# Altium footprint library BSPO.PcbLib: 178 footprints (part 6 of 12)
Each footprint in its own frame and in the unit in brackets; x right, y up, seen from the top. Pads: shape width x height; smd on the part's side, far side on the other; paste and mask are expansions set on the pad; w line width, h text height; cw(c..) or ccw(c..) is an arc to the next point about the centre after c.
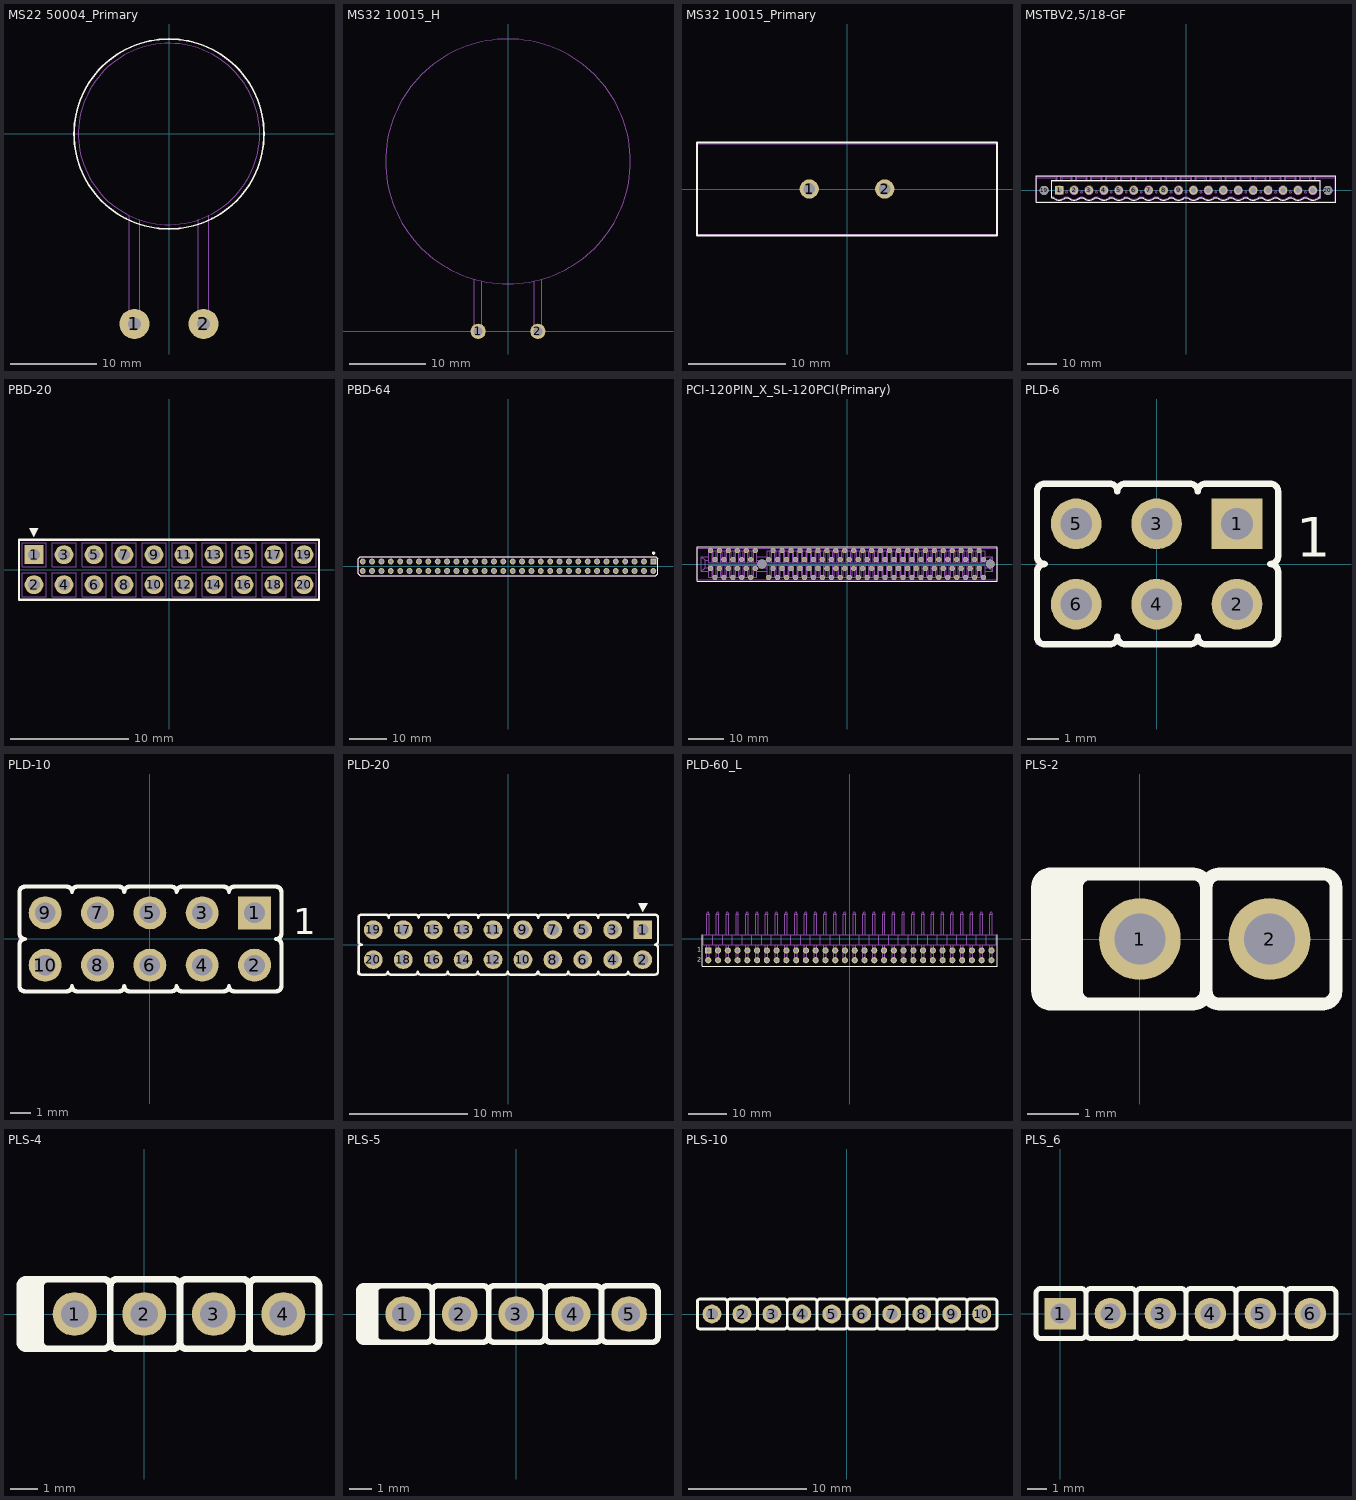
[diagram p5: the footprints below, top view; thin cyan lines are the x and y axes]

## MS22 50004_Primary [mm]
pads (2):
  round 3.5 hole 1.5: 1(-4,-22) 2(4,-22)
Top Overlay:
  circle w0.2: c0,0 r11
Mechanical 1:
  circle w0.02: c0,0 r10.5
  lines w0.02: -4.6,-9.438 -4.6,-22 ccw(c-4,-22) -3.4,-22 -3.4,-9.934 ; 3.4,-9.934 3.4,-22 ccw(c4,-22) 4.6,-22 4.6,-9.438

## MS32 10015_H [mm]
pads (2):
  round 2 hole 1.2: 1(-3.9,0) 2(3.9,0)
Mechanical 1:
  circle w0.025: c0,22.2 r16
  lines w0.025: -4.4,6.81 -4.4,0 ccw(c-3.9,0) -3.4,0 -3.4,6.56 ; 3.4,6.56 3.4,0 ccw(c3.9,0) 4.4,0 4.4,6.81

## MS32 10015_Primary [mm]
pads (2):
  round 2 hole 1.2: 1(-3.9,0) 2(3.9,0)
Top Overlay:
  lines w0.2: -15.5,-4.8 15.5,-4.8 15.5,4.8 -15.5,4.8 -15.5,-4.8
Mechanical 1:
  lines w0.025: -15.5,-4.7 15.5,-4.7 15.5,4.7 -15.5,4.7 -15.5,-4.7

## MSTBV2,5/18-GF [mm]
pads (20):
  rect 2.8x2.8 hole 1.8: 1(-42.5,0)
  round 2.8 hole 1.8: 2(-37.5,0) 3(-32.5,0) 4(-27.5,0) 5(-22.5,0) 6(-17.5,0) 7(-12.5,0) 8(-7.5,0) 9(-2.5,0) 10(2.5,0) 11(7.5,0) 12(12.5,0) 13(17.5,0) 14(22.5,0) 15(27.5,0) 16(32.5,0) 17(37.5,0) 18(42.5,0)
  round 3 hole 3 unplated: 19(-47.5,0) 20(47.5,0)
Top Overlay:
  lines w0.25: -44.502,-2.569 ccw(c-42.5,-0.07) -40.503,-2.572 ; -44.5,-2.57 -45,-2.57 -45,3.43 45,3.43 45,-2.57 44.5,-2.57 ; -40.5,-2.571 -39.5,-2.571 ; -39.502,-2.569 ccw(c-37.5,-0.071) -35.503,-2.573 ; -35.5,-2.571 -34.5,-2.571 ; -34.502,-2.569 ccw(c-32.5,-0.071) -30.503,-2.573 ; -30.5,-2.57 -29.5,-2.57 ; -29.502,-2.569 ccw(c-27.5,-0.07) -25.503,-2.572 ; -25.5,-2.57 -24.5,-2.57 ; -24.502,-2.569 ccw(c-22.5,-0.07) -20.503,-2.572 ; -20.5,-2.57 -19.5,-2.57 ; -19.502,-2.569 ccw(c-17.5,-0.07) -15.503,-2.572 ; -15.5,-2.57 -14.5,-2.57 ; -14.502,-2.569 ccw(c-12.5,-0.07) -10.503,-2.572 ; -10.5,-2.57 -9.5,-2.57 ; -9.502,-2.569 ccw(c-7.5,-0.07) -5.503,-2.572 ; -5.5,-2.57 -4.5,-2.57 ; -4.502,-2.569 ccw(c-2.5,-0.07) -0.503,-2.572 ; -0.5,-2.57 0.5,-2.57 ; 0.498,-2.569 ccw(c2.5,-0.07) 4.497,-2.572 ; 4.5,-2.57 5.5,-2.57 ; 5.498,-2.569 ccw(c7.5,-0.07) 9.497,-2.572 ; 9.5,-2.57 10.5,-2.57 ; 10.498,-2.569 ccw(c12.5,-0.07) 14.497,-2.572 ; 14.5,-2.57 15.5,-2.57 ; 15.498,-2.569 ccw(c17.5,-0.07) 19.497,-2.572 ; 19.5,-2.57 20.5,-2.57 ; 20.498,-2.569 ccw(c22.5,-0.07) 24.497,-2.572 ; 24.5,-2.57 25.5,-2.57 ; 25.498,-2.569 ccw(c27.5,-0.07) 29.497,-2.572 ; 29.5,-2.57 30.5,-2.57 ; 30.498,-2.569 ccw(c32.5,-0.07) 34.497,-2.572 ; 34.5,-2.57 35.5,-2.57 ; 35.498,-2.569 ccw(c37.5,-0.07) 39.497,-2.572 ; 39.5,-2.57 40.5,-2.57 ; 40.498,-2.569 ccw(c42.5,-0.07) 44.497,-2.572 ; -50.25,-4.07 50.25,-4.07 50.25,4.93 -50.25,4.93 -50.25,-4.07
Mechanical 1:
  drawing of 586 lines, arcs and shapes, not listed

## PBD-20 [mm]
pads (20):
  rect 1.6x1.6 hole 1: 1(-11.43,1.27)
  round 1.6 hole 1: 2(-11.43,-1.27) 3(-8.89,1.27) 4(-8.89,-1.27) 5(-6.35,1.27) 6(-6.35,-1.27) 7(-3.81,1.27) 8(-3.81,-1.27) 9(-1.27,1.27) 10(-1.27,-1.27) 11(1.27,1.27) 12(1.27,-1.27) 13(3.81,1.27) 14(3.81,-1.27) 15(6.35,1.27) 16(6.35,-1.27) 17(8.89,1.27) 18(8.89,-1.27) 19(11.43,1.27) 20(11.43,-1.27)
Top Overlay:
  region: -11.85,3.5 -11.45,2.8 -11.05,3.5
  lines w0.2: -12.7,-2.54 12.7,-2.54 12.7,2.54 -12.7,2.54 -12.7,-2.54
Mechanical 1:
  lines w0.01: -10.16,-2.54 -12.7,-2.54 ; -10.16,2.54 -12.7,2.54 ; -12.7,-2.54 12.7,-2.54 ; -12.7,-2.54 -12.7,2.54 ; -12.7,2.54 12.7,2.54 ; 12.7,-2.54 12.7,2.54 ; 12.7,-2.54 12.7,0 ; 12.7,-2.54 12.7,2.54 ; 12.7,-2.54 12.7,0 ; 12.7,0 12.7,2.54 ; 12.7,0 12.7,2.54 ; -12.446,-2.286 -12.446,-0.254 -10.414,-0.254 -10.414,-2.286 -12.446,-2.286 ; -12.446,0.254 -12.446,2.286 -10.414,2.286 -10.414,0.254 -12.446,0.254 ; -9.906,-2.286 -9.906,-0.254 -7.874,-0.254 -7.874,-2.286 -9.906,-2.286 ; -9.906,0.254 -9.906,2.286 -7.874,2.286 -7.874,0.254 -9.906,0.254 ; -7.366,-2.286 -7.366,-0.254 -5.334,-0.254 -5.334,-2.286 -7.366,-2.286 ; -7.366,0.254 -7.366,2.286 -5.334,2.286 -5.334,0.254 -7.366,0.254 ; -4.826,-2.286 -4.826,-0.254 -2.794,-0.254 -2.794,-2.286 -4.826,-2.286 ; -4.826,0.254 -4.826,2.286 -2.794,2.286 -2.794,0.254 -4.826,0.254 ; -2.286,-2.286 -2.286,-0.254 -0.254,-0.254 -0.254,-2.286 -2.286,-2.286 ; -2.286,0.254 -2.286,2.286 -0.254,2.286 -0.254,0.254 -2.286,0.254 ; 0.254,-2.286 0.254,-0.254 2.286,-0.254 2.286,-2.286 0.254,-2.286 ; 0.254,0.254 0.254,2.286 2.286,2.286 2.286,0.254 0.254,0.254 ; 2.794,-2.286 2.794,-0.254 4.826,-0.254 4.826,-2.286 2.794,-2.286 ; 2.794,0.254 2.794,2.286 4.826,2.286 4.826,0.254 2.794,0.254 ; 5.334,-2.286 5.334,-0.254 7.366,-0.254 7.366,-2.286 5.334,-2.286 ; 5.334,0.254 5.334,2.286 7.366,2.286 7.366,0.254 5.334,0.254 ; 7.874,-2.286 7.874,-0.254 9.906,-0.254 9.906,-2.286 7.874,-2.286 ; 7.874,0.254 7.874,2.286 9.906,2.286 9.906,0.254 7.874,0.254 ; 10.414,-2.286 10.414,-0.254 12.446,-0.254 12.446,-2.286 10.414,-2.286 ; 10.414,0.254 10.414,2.286 12.446,2.286 12.446,0.254 10.414,0.254

## PBD-64 [mm]
pads (64):
  rect 1.6x1.6 hole 1: 1(39.37,1.27)
  round 1.6 hole 1: 2(39.37,-1.27) 3(36.83,1.27) 4(36.83,-1.27) 5(34.29,1.27) 6(34.29,-1.27) 7(31.75,1.27) 8(31.75,-1.27) 9(29.21,1.27) 10(29.21,-1.27) 11(26.67,1.27) 12(26.67,-1.27) 13(24.13,1.27) 14(24.13,-1.27) 15(21.59,1.27) 16(21.59,-1.27) 17(19.05,1.27) 18(19.05,-1.27) 19(16.51,1.27) 20(16.51,-1.27) 21(13.97,1.27) 22(13.97,-1.27) 23(11.43,1.27) 24(11.43,-1.27) 25(8.89,1.27) 26(8.89,-1.27) 27(6.35,1.27) 28(6.35,-1.27) 29(3.81,1.27) 30(3.81,-1.27) 31(1.27,1.27) 32(1.27,-1.27) 33(-1.27,1.27) 34(-1.27,-1.27) 35(-3.81,1.27) 36(-3.81,-1.27) 37(-6.35,1.27) 38(-6.35,-1.27) 39(-8.89,1.27) 40(-8.89,-1.27) 41(-11.43,1.27) 42(-11.43,-1.27) 43(-13.97,1.27) 44(-13.97,-1.27) 45(-16.51,1.27) 46(-16.51,-1.27) 47(-19.05,1.27) 48(-19.05,-1.27) 49(-21.59,1.27) 50(-21.59,-1.27) 51(-24.13,1.27) 52(-24.13,-1.27) 53(-26.67,1.27) 54(-26.67,-1.27) 55(-29.21,1.27) 56(-29.21,-1.27) 57(-31.75,1.27) 58(-31.75,-1.27) 59(-34.29,1.27) 60(-34.29,-1.27) 61(-36.83,1.27) 62(-36.83,-1.27) 63(-39.37,1.27) 64(-39.37,-1.27)
Top Overlay:
  circle w0.5: c39.452,3.548 r0.2
  lines w0.25: 35.56,2.54 40.09,2.54 40.64,1.99 40.64,-1.99 40.09,-2.54 17.78,-2.54 -40.09,-2.54 -40.64,-1.99 -40.64,1.99 -40.09,2.54 38.1,2.54
Mechanical 1:
  lines w0.1: -40.64,-1.99 -40.64,1.99 -40.09,2.54 35.56,2.54 40.09,2.54 40.64,1.99 40.64,-1.99 40.09,-2.54 35.56,-2.54 -40.09,-2.54 -40.64,-1.99

## PCI-120PIN_X_SL-120PCI(Primary) [mm]
pads (122):
  round 2.5 hole 2.5 unplated: 121(40.645,0) 122(-24.125,0)
  round 1.5 hole 1.1: A1(38.735,-3.81) A2(37.465,-1.27) A3(36.195,-3.81) A4(34.925,-1.27) A5(33.655,-3.81) A6(32.385,-1.27) A7(31.115,-3.81) A8(29.845,-1.27) A9(28.575,-3.81) A10(27.305,-1.27) A11(26.035,-3.81) A12(24.765,-1.27) A13(23.495,-3.81) A14(22.225,-1.27) A15(20.955,-3.81) A16(19.685,-1.27) A17(18.415,-3.81) A18(17.145,-1.27) A19(15.875,-3.81) A20(14.605,-1.27) A21(13.335,-3.81) A22(12.065,-1.27) A23(10.795,-3.81) A24(9.525,-1.27) A25(8.255,-3.81) A26(6.985,-1.27) A27(5.715,-3.81) A28(4.445,-1.27) A29(3.175,-3.81) A30(1.905,-1.27) A31(0.635,-3.81) A32(-0.635,-1.27) A33(-1.905,-3.81) A34(-3.175,-1.27) A35(-4.445,-3.81) A36(-5.715,-1.27) A37(-6.985,-3.81) A38(-8.255,-1.27) A39(-9.525,-3.81) A40(-10.795,-1.27) A41(-12.065,-3.81) A42(-13.335,-1.27) A43(-14.605,-3.81) A44(-15.875,-1.27) A45(-17.145,-3.81) A46(-18.415,-1.27) A47(-19.685,-3.81) A48(-20.955,-1.27) A49(-22.225,-3.81) A50(-26.035,-1.27) A51(-27.305,-3.81) A52(-28.575,-1.27) A53(-29.845,-3.81) A54(-31.115,-1.27) A55(-32.385,-3.81) A56(-33.655,-1.27) A57(-34.925,-3.81) A58(-36.195,-1.27) A59(-37.465,-3.81) A60(-38.735,-1.27) B1(38.735,1.27) B2(37.465,3.81) B3(36.195,1.27) B4(34.925,3.81) B5(33.655,1.27) B6(32.385,3.81) B7(31.115,1.27) B8(29.845,3.81) B9(28.575,1.27) B10(27.305,3.81) B11(26.035,1.27) B12(24.765,3.81) B13(23.495,1.27) B14(22.225,3.81) B15(20.955,1.27) B16(19.685,3.81) B17(18.415,1.27) B18(17.145,3.81) B19(15.875,1.27) B20(14.605,3.81) B21(13.335,1.27) B22(12.065,3.81) B23(10.795,1.27) B24(9.525,3.81) B25(8.255,1.27) B26(6.985,3.81) B27(5.715,1.27) B28(4.445,3.81) B29(3.175,1.27) B30(1.905,3.81) B31(0.635,1.27) B32(-0.635,3.81) B33(-1.905,1.27) B34(-3.175,3.81) B35(-4.445,1.27) B36(-5.715,3.81) B37(-6.985,1.27) B38(-8.255,3.81) B39(-9.525,1.27) B40(-10.795,3.81) B41(-12.065,1.27) B42(-13.335,3.81) B43(-14.605,1.27) B44(-15.875,3.81) B45(-17.145,1.27) B46(-18.415,3.81) B47(-19.685,1.27) B48(-20.955,3.81) B49(-22.225,1.27) B50(-26.035,3.81) B51(-27.305,1.27) B52(-28.575,3.81) B53(-29.845,1.27) B54(-31.115,3.81) B55(-32.385,1.27) B56(-33.655,3.81) B57(-34.925,1.27) B58(-36.195,3.81) B59(-37.465,1.27) B60(-38.735,3.81)
Top Overlay:
  lines w0.2: -42.545,-4.826 42.545,-4.826 42.545,4.826 -42.545,4.826 -42.545,-4.826
Mechanical 1:
  drawing of 389 lines, arcs and shapes, not listed

## PLD-6 [mm]
pads (6):
  rect 1.6x1.6 hole 1: 1(2.54,1.27)
  round 1.6 hole 1: 2(2.54,-1.27) 3(0,1.27) 4(0,-1.27) 5(-2.54,1.27) 6(-2.54,-1.27)
Top Overlay:
  lines w0.2: 3.59,-2.54 ccw(c3.59,-2.29) 3.84,-2.29 ; 3.59,0 ccw(c3.59,0.25) 3.84,0.25 3.84,2.29 ccw(c3.59,2.29) 3.59,2.54 1.55,2.54 ccw(c1.55,2.29) 1.3,2.29 ccw(c1.05,2.29) 1.05,2.54 -0.99,2.54 ccw(c-0.99,2.29) -1.24,2.29 ccw(c-1.49,2.29) -1.49,2.54 -3.53,2.54 ccw(c-3.53,2.29) -3.78,2.29 -3.78,0.25 ccw(c-3.53,0.25) -3.53,0 ccw(c-3.53,-0.25) -3.78,-0.25 -3.78,-2.29 ccw(c-3.53,-2.29) -3.53,-2.54 -1.49,-2.54 ccw(c-1.49,-2.29) -1.24,-2.29 ccw(c-0.99,-2.29) -0.99,-2.54 1.05,-2.54 ccw(c1.05,-2.29) 1.3,-2.29 ccw(c1.55,-2.29) 1.55,-2.54 ; 3.59,0 cw(c3.59,-0.25) 3.84,-0.25 3.84,-2.29 ; 1.55,-2.54 3.59,-2.54 ; 1.55,-2.54 3.59,-2.54 ; 3.59,-2.54 ccw(c3.59,-2.29) 3.84,-2.29
  text "1" at 4.417,0.232 h1.25
Mechanical 1:
  lines w0.01: -2.54,-2.54 3.81,-2.54 ; -2.54,2.54 3.81,2.54 ; 3.81,0 3.81,2.54 ; -3.81,-2.54 -1.27,-2.54 1.27,-2.54 3.81,-2.54 ; -3.81,-2.54 -3.81,2.54 ; -3.81,-2.54 -3.81,0 -3.81,2.54 ; -3.81,2.54 -1.27,2.54 1.27,2.54 3.81,2.54 ; 3.81,-2.54 3.81,2.54 ; -3.048,-1.778 -2.032,-1.778 -2.032,-0.762 -3.048,-0.762 -3.048,-1.778 ; -3.048,0.762 -2.032,0.762 -2.032,1.778 -3.048,1.778 -3.048,0.762 ; -0.508,-1.778 -0.508,-0.762 0.508,-0.762 0.508,-1.778 -0.508,-1.778 ; -0.508,0.762 -0.508,1.778 0.508,1.778 0.508,0.762 -0.508,0.762 ; 2.032,-1.778 2.032,-0.762 3.048,-0.762 3.048,-1.778 2.032,-1.778 ; 2.032,0.762 2.032,1.778 3.048,1.778 3.048,0.762 2.032,0.762

## PLD-10 [mm]
pads (10):
  rect 1.6x1.6 hole 1: 1(5.08,1.27)
  round 1.6 hole 1: 2(5.08,-1.27) 3(2.54,1.27) 4(2.54,-1.27) 5(0,1.27) 6(0,-1.27) 7(-2.54,1.27) 8(-2.54,-1.27) 9(-5.08,1.27) 10(-5.08,-1.27)
Top Overlay:
  lines w0.2: 6.13,-2.54 ccw(c6.13,-2.29) 6.38,-2.29 ; 6.13,0 ccw(c6.13,0.25) 6.38,0.25 6.38,2.29 ccw(c6.13,2.29) 6.13,2.54 4.09,2.54 ccw(c4.09,2.29) 3.84,2.29 ccw(c3.59,2.29) 3.59,2.54 1.55,2.54 ccw(c1.55,2.29) 1.3,2.29 ccw(c1.05,2.29) 1.05,2.54 -0.99,2.54 ccw(c-0.99,2.29) -1.24,2.29 ccw(c-1.49,2.29) -1.49,2.54 -3.53,2.54 ccw(c-3.53,2.29) -3.78,2.29 ccw(c-4.03,2.29) -4.03,2.54 -6.07,2.54 ccw(c-6.07,2.29) -6.32,2.29 -6.32,0.25 ccw(c-6.07,0.25) -6.07,0 ccw(c-6.07,-0.25) -6.32,-0.25 -6.32,-2.29 ccw(c-6.07,-2.29) -6.07,-2.54 -4.03,-2.54 ccw(c-4.03,-2.29) -3.78,-2.29 ccw(c-3.53,-2.29) -3.53,-2.54 -1.49,-2.54 ccw(c-1.49,-2.29) -1.24,-2.29 ccw(c-0.99,-2.29) -0.99,-2.54 1.05,-2.54 ccw(c1.05,-2.29) 1.3,-2.29 ccw(c1.55,-2.29) 1.55,-2.54 3.59,-2.54 ccw(c3.59,-2.29) 3.84,-2.29 ccw(c4.09,-2.29) 4.09,-2.54 ; 6.13,0 cw(c6.13,-0.25) 6.38,-0.25 6.38,-2.29 ; 4.09,-2.54 6.13,-2.54 ; 4.09,-2.54 6.13,-2.54 ; 6.13,-2.54 ccw(c6.13,-2.29) 6.38,-2.29
  text "1" at 6.957,0.232 h1.25
Mechanical 1:
  lines w0.01: 6.35,0 6.35,2.54 ; -6.35,-2.54 6.35,-2.54 ; -6.35,-2.54 -6.35,2.54 ; -6.35,-2.54 -3.81,-2.54 -1.27,-2.54 1.27,-2.54 3.81,-2.54 6.35,-2.54 ; -6.35,-2.54 -6.35,0 -6.35,2.54 ; -6.35,2.54 6.35,2.54 ; -6.35,2.54 -3.81,2.54 -1.27,2.54 1.27,2.54 3.81,2.54 6.35,2.54 ; 6.35,-2.54 6.35,2.54 ; -5.588,-1.778 -5.588,-0.762 -4.572,-0.762 -4.572,-1.778 -5.588,-1.778 ; -5.588,0.762 -5.588,1.778 -4.572,1.778 -4.572,0.762 -5.588,0.762 ; -3.048,-1.778 -3.048,-0.762 -2.032,-0.762 -2.032,-1.778 -3.048,-1.778 ; -3.048,0.762 -3.048,1.778 -2.032,1.778 -2.032,0.762 -3.048,0.762 ; -0.508,-1.778 0.508,-1.778 0.508,-0.762 -0.508,-0.762 -0.508,-1.778 ; -0.508,0.762 0.508,0.762 0.508,1.778 -0.508,1.778 -0.508,0.762 ; 2.032,-1.778 2.032,-0.762 3.048,-0.762 3.048,-1.778 2.032,-1.778 ; 2.032,0.762 2.032,1.778 3.048,1.778 3.048,0.762 2.032,0.762 ; 4.572,-1.778 4.572,-0.762 5.588,-0.762 5.588,-1.778 4.572,-1.778 ; 4.572,0.762 4.572,1.778 5.588,1.778 5.588,0.762 4.572,0.762

## PLD-20 [mm]
pads (20):
  rect 1.6x1.6 hole 1: 1(11.43,1.27)
  round 1.6 hole 1: 2(11.43,-1.27) 3(8.89,1.27) 4(8.89,-1.27) 5(6.35,1.27) 6(6.35,-1.27) 7(3.81,1.27) 8(3.81,-1.27) 9(1.27,1.27) 10(1.27,-1.27) 11(-1.27,1.27) 12(-1.27,-1.27) 13(-3.81,1.27) 14(-3.81,-1.27) 15(-6.35,1.27) 16(-6.35,-1.27) 17(-8.89,1.27) 18(-8.89,-1.27) 19(-11.43,1.27) 20(-11.43,-1.27)
Top Overlay:
  region: 11.05,3.5 11.45,2.8 11.85,3.5
  lines w0.2: -12.73,-2.29 ccw(c-12.48,-2.29) -12.48,-2.54 -10.44,-2.54 ccw(c-10.44,-2.29) -10.19,-2.29 ccw(c-9.94,-2.29) -9.94,-2.54 -7.9,-2.54 ccw(c-7.9,-2.29) -7.65,-2.29 ccw(c-7.4,-2.29) -7.4,-2.54 -5.36,-2.54 ccw(c-5.36,-2.29) -5.11,-2.29 ccw(c-4.86,-2.29) -4.86,-2.54 -2.82,-2.54 ccw(c-2.82,-2.29) -2.57,-2.29 ccw(c-2.32,-2.29) -2.32,-2.54 -0.28,-2.54 ccw(c-0.28,-2.29) -0.03,-2.29 ccw(c0.22,-2.29) 0.22,-2.54 2.26,-2.54 ccw(c2.26,-2.29) 2.51,-2.29 ; -12.42,-2.54 cw(c-12.42,-2.29) -12.67,-2.29 -12.67,-0.25 cw(c-12.42,-0.25) -12.42,0 cw(c-12.42,0.25) -12.67,0.25 -12.67,2.29 ; 2.57,-2.29 ccw(c2.82,-2.29) 2.82,-2.54 4.86,-2.54 ccw(c4.86,-2.29) 5.11,-2.29 ccw(c5.36,-2.29) 5.36,-2.54 7.4,-2.54 ccw(c7.4,-2.29) 7.65,-2.29 ccw(c7.9,-2.29) 7.9,-2.54 9.94,-2.54 ccw(c9.94,-2.29) 10.19,-2.29 ccw(c10.44,-2.29) 10.44,-2.54 ; 12.48,-2.54 ccw(c12.48,-2.29) 12.73,-2.29 ; 12.48,0 ccw(c12.48,0.25) 12.73,0.25 12.73,2.29 ccw(c12.48,2.29) 12.48,2.54 10.44,2.54 ccw(c10.44,2.29) 10.19,2.29 ccw(c9.94,2.29) 9.94,2.54 7.9,2.54 ccw(c7.9,2.29) 7.65,2.29 ccw(c7.4,2.29) 7.4,2.54 5.36,2.54 ccw(c5.36,2.29) 5.11,2.29 ccw(c4.86,2.29) 4.86,2.54 2.82,2.54 ccw(c2.82,2.29) 2.57,2.29 ccw(c2.32,2.29) 2.32,2.54 0.28,2.54 ccw(c0.28,2.29) 0.03,2.29 ccw(c-0.22,2.29) -0.22,2.54 -2.26,2.54 ccw(c-2.26,2.29) -2.51,2.29 ccw(c-2.76,2.29) -2.76,2.54 -4.8,2.54 ccw(c-4.8,2.29) -5.05,2.29 ccw(c-5.3,2.29) -5.3,2.54 -7.34,2.54 ccw(c-7.34,2.29) -7.59,2.29 ccw(c-7.84,2.29) -7.84,2.54 -9.88,2.54 ccw(c-9.88,2.29) -10.13,2.29 ccw(c-10.38,2.29) -10.38,2.54 -12.42,2.54 ; 12.48,0 cw(c12.48,-0.25) 12.73,-0.25 12.73,-2.29 ; -12.67,2.29 cw(c-12.42,2.29) -12.42,2.54 ; -12.67,2.29 cw(c-12.42,2.29) -12.42,2.54 ; 10.44,-2.54 12.48,-2.54 ; 10.44,-2.54 12.48,-2.54 ; 12.48,-2.54 ccw(c12.48,-2.29) 12.73,-2.29
Mechanical 1:
  lines w0.01: 12.7,0 12.7,2.54 ; -12.7,-2.54 -12.7,2.54 ; -12.7,-2.54 -12.7,0 ; -12.7,-2.54 -12.7,2.54 ; -12.7,-2.54 -12.7,0 ; -12.7,-2.54 -10.16,-2.54 -7.62,-2.54 -5.08,-2.54 -2.54,-2.54 0,-2.54 ; -12.7,0 -12.7,2.54 ; -12.7,0 -12.7,2.54 ; -12.7,2.54 -10.16,2.54 -7.62,2.54 -5.08,2.54 -2.54,2.54 0,2.54 ; 0,-2.54 12.7,-2.54 ; 0,-2.54 2.54,-2.54 ; 0,-2.54 2.54,-2.54 ; 0,2.54 12.7,2.54 ; 0,2.54 2.54,2.54 ; 0,2.54 2.54,2.54 ; 2.54,-2.54 5.08,-2.54 7.62,-2.54 10.16,-2.54 12.7,-2.54 ; 2.54,2.54 5.08,2.54 7.62,2.54 10.16,2.54 12.7,2.54 ; 12.7,-2.54 12.7,2.54 ; -11.938,-1.778 -11.938,-0.762 -10.922,-0.762 -10.922,-1.778 -11.938,-1.778 ; -11.938,0.762 -11.938,1.778 -10.922,1.778 -10.922,0.762 -11.938,0.762 ; -9.398,-1.778 -8.382,-1.778 -8.382,-0.762 -9.398,-0.762 -9.398,-1.778 ; -9.398,0.762 -8.382,0.762 -8.382,1.778 -9.398,1.778 -9.398,0.762 ; -6.858,-1.778 -5.842,-1.778 -5.842,-0.762 -6.858,-0.762 -6.858,-1.778 ; -6.858,0.762 -5.842,0.762 -5.842,1.778 -6.858,1.778 -6.858,0.762 ; -4.318,-1.778 -4.318,-0.762 -3.302,-0.762 -3.302,-1.778 -4.318,-1.778 ; -4.318,0.762 -4.318,1.778 -3.302,1.778 -3.302,0.762 -4.318,0.762 ; -1.778,-1.778 -0.762,-1.778 -0.762,-0.762 -1.778,-0.762 -1.778,-1.778 ; -1.778,0.762 -0.762,0.762 -0.762,1.778 -1.778,1.778 -1.778,0.762 ; 0.762,-1.778 0.762,-0.762 1.778,-0.762 1.778,-1.778 0.762,-1.778 ; 0.762,0.762 0.762,1.778 1.778,1.778 1.778,0.762 0.762,0.762 ; 3.302,-1.778 3.302,-0.762 4.318,-0.762 4.318,-1.778 3.302,-1.778 ; 3.302,0.762 3.302,1.778 4.318,1.778 4.318,0.762 3.302,0.762 ; 5.842,-1.778 6.858,-1.778 6.858,-0.762 5.842,-0.762 5.842,-1.778 ; 5.842,0.762 6.858,0.762 6.858,1.778 5.842,1.778 5.842,0.762 ; 8.382,-1.778 8.382,-0.762 9.398,-0.762 9.398,-1.778 8.382,-1.778 ; 8.382,0.762 8.382,1.778 9.398,1.778 9.398,0.762 8.382,0.762 ; 10.922,-1.778 10.922,-0.762 11.938,-0.762 11.938,-1.778 10.922,-1.778 ; 10.922,0.762 10.922,1.778 11.938,1.778 11.938,0.762 10.922,0.762

## PLD-60_L [mm]
pads (60):
  rect 1.6x1.6 hole 1: 1(-36.75,-3.03)
  round 1.6 hole 1: 2(-36.75,-5.57) 3(-34.21,-3.03) 4(-34.21,-5.57) 5(-31.67,-3.03) 6(-31.67,-5.57) 7(-29.13,-3.03) 8(-29.13,-5.57) 9(-26.59,-3.03) 10(-26.59,-5.57) 11(-24.05,-3.03) 12(-24.05,-5.57) 13(-21.51,-3.03) 14(-21.51,-5.57) 15(-18.97,-3.03) 16(-18.97,-5.57) 17(-16.43,-3.03) 18(-16.43,-5.57) 19(-13.89,-3.03) 20(-13.89,-5.57) 21(-11.35,-3.03) 22(-11.35,-5.57) 23(-8.81,-3.03) 24(-8.81,-5.57) 25(-6.27,-3.03) 26(-6.27,-5.57) 27(-3.73,-3.03) 28(-3.73,-5.57) 29(-1.19,-3.03) 30(-1.19,-5.57) 31(1.35,-3.03) 32(1.35,-5.57) 33(3.89,-3.03) 34(3.89,-5.57) 35(6.43,-3.03) 36(6.43,-5.57) 37(8.97,-3.03) 38(8.97,-5.57) 39(11.51,-3.03) 40(11.51,-5.57) 41(14.05,-3.03) 42(14.05,-5.57) 43(16.59,-3.03) 44(16.59,-5.57) 45(19.13,-3.03) 46(19.13,-5.57) 47(21.67,-3.03) 48(21.67,-5.57) 49(24.21,-3.03) 50(24.21,-5.57) 51(26.75,-3.03) 52(26.75,-5.57) 53(29.29,-3.03) 54(29.29,-5.57) 55(31.83,-3.03) 56(31.83,-5.57) 57(34.37,-3.03) 58(34.37,-5.57) 59(36.91,-3.03) 60(36.91,-5.57)
Top Overlay:
  lines w0.2: -38.354,1.034 -38.354,-7.094 38.354,-7.094 38.354,1.034
  text "2" at -39.58,-5.92 h1.25
  text "1" at -39.68,-3.32 h1.25
Mechanical 1:
  drawing of 331 lines, arcs and shapes, not listed

## PLS-2 [mm]
pads (2):
  round 1.6 hole 1: 1(0,0) 2(2.54,0)
Top Overlay:
  region: -2.032,1.016 -2.032,-1.016 -1.778,-1.27 -1.27,-1.27 -1.27,1.27 -1.778,1.27
  lines w0.25: -1.778,-1.27 1.05,-1.27 ; -1.778,1.27 1.05,1.27 cw(c1.05,1.02) 1.3,1.02 ; -1.752,-1.27 cw(c-1.752,-1.02) -2.002,-1.02 -2.002,1.02 cw(c-1.752,1.02) -1.752,1.27 ; -0.99,-1.27 cw(c-0.99,-1.02) -1.24,-1.02 -1.24,1.02 cw(c-0.99,1.02) -0.99,1.27 ; 1.05,-1.27 ccw(c1.05,-1.02) 1.3,-1.02 ; 3.59,-1.27 ccw(c3.59,-1.02) 3.84,-1.02 3.84,1.02 ccw(c3.59,1.02) 3.59,1.27 1.55,1.27 ccw(c1.55,1.02) 1.3,1.02 ; 3.59,-1.27 1.55,-1.27 cw(c1.55,-1.02) 1.3,-1.02 ; 1.3,-1.02 1.3,1.02
Mechanical 1:
  lines w0.01: 1.27,-1.27 3.81,-1.27 ; 1.27,-1.27 1.27,1.27 ; 1.27,-1.27 1.27,1.27 ; 1.27,-1.27 -1.27,-1.27 -1.27,1.27 1.27,1.27 ; 1.27,1.27 3.81,1.27 ; 3.81,-1.27 3.81,1.27 ; 3.81,-1.27 3.81,1.27 ; -0.508,-0.508 -0.508,0.508 0.508,0.508 0.508,-0.508 -0.508,-0.508 ; 2.032,-0.508 2.032,0.508 3.048,0.508 3.048,-0.508 2.032,-0.508
  text "1" at -2.159,-1.016 h2

## PLS-4 [mm]
pads (4):
  round 1.6 hole 1: 1(-2.54,0) 2(0,0) 3(2.54,0) 4(5.08,0)
Top Overlay:
  region: -4.572,1.016 -4.572,-1.016 -4.318,-1.27 -3.81,-1.27 -3.81,1.27 -4.318,1.27
  lines w0.25: -4.318,-1.27 -1.49,-1.27 ; -4.318,1.27 -1.49,1.27 cw(c-1.49,1.02) -1.24,1.02 ; -4.292,-1.27 cw(c-4.292,-1.02) -4.542,-1.02 -4.542,1.02 cw(c-4.292,1.02) -4.292,1.27 ; -3.53,-1.27 cw(c-3.53,-1.02) -3.78,-1.02 -3.78,1.02 cw(c-3.53,1.02) -3.53,1.27 ; -1.49,-1.27 ccw(c-1.49,-1.02) -1.24,-1.02 ; 1.05,-1.27 ccw(c1.05,-1.02) 1.3,-1.02 ; 1.05,-1.27 -0.99,-1.27 cw(c-0.99,-1.02) -1.24,-1.02 ; 3.59,-1.27 ccw(c3.59,-1.02) 3.84,-1.02 ; 3.59,-1.27 1.55,-1.27 cw(c1.55,-1.02) 1.3,-1.02 ; 6.13,-1.27 ccw(c6.13,-1.02) 6.38,-1.02 6.38,1.02 ccw(c6.13,1.02) 6.13,1.27 4.09,1.27 ccw(c4.09,1.02) 3.84,1.02 ; 6.13,-1.27 4.09,-1.27 cw(c4.09,-1.02) 3.84,-1.02 ; -1.24,-1.02 -1.24,1.02 ; -1.24,1.02 cw(c-0.99,1.02) -0.99,1.27 1.05,1.27 cw(c1.05,1.02) 1.3,1.02 ; 1.3,-1.02 1.3,1.02 ; 1.3,1.02 cw(c1.55,1.02) 1.55,1.27 3.59,1.27 cw(c3.59,1.02) 3.84,1.02 ; 3.84,-1.02 3.84,1.02
Mechanical 1:
  lines w0.01: -1.27,-1.27 1.27,-1.27 ; -1.27,-1.27 -1.27,1.27 ; -1.27,-1.27 -1.27,1.27 ; -1.27,-1.27 -3.81,-1.27 -3.81,1.27 -1.27,1.27 ; -1.27,1.27 1.27,1.27 ; 1.27,-1.27 3.81,-1.27 ; 1.27,-1.27 1.27,1.27 ; 1.27,-1.27 1.27,1.27 ; 1.27,1.27 3.81,1.27 ; 3.81,-1.27 6.35,-1.27 ; 3.81,-1.27 3.81,1.27 ; 3.81,-1.27 3.81,1.27 ; 3.81,1.27 6.35,1.27 ; 6.35,-1.27 6.35,1.27 ; 6.35,-1.27 6.35,1.27 ; -3.048,-0.508 -3.048,0.508 -2.032,0.508 -2.032,-0.508 -3.048,-0.508 ; -0.508,-0.508 -0.508,0.508 0.508,0.508 0.508,-0.508 -0.508,-0.508 ; 2.032,-0.508 3.048,-0.508 3.048,0.508 2.032,0.508 2.032,-0.508 ; 4.572,-0.508 4.572,0.508 5.588,0.508 5.588,-0.508 4.572,-0.508
  text "1" at -4.699,-1.016 h2

## PLS-5 [mm]
pads (5):
  round 1.6 hole 1: 1(-5.08,0) 2(-2.54,0) 3(0,0) 4(2.54,0) 5(5.08,0)
Top Overlay:
  region: -7.112,1.016 -7.112,-1.016 -6.858,-1.27 -6.35,-1.27 -6.35,1.27 -6.858,1.27
  lines w0.25: -6.858,-1.27 -4.03,-1.27 ; -6.858,1.27 -4.03,1.27 cw(c-4.03,1.02) -3.78,1.02 ; -6.832,-1.27 cw(c-6.832,-1.02) -7.082,-1.02 -7.082,1.02 cw(c-6.832,1.02) -6.832,1.27 ; -6.07,-1.27 cw(c-6.07,-1.02) -6.32,-1.02 -6.32,1.02 cw(c-6.07,1.02) -6.07,1.27 ; -4.03,-1.27 ccw(c-4.03,-1.02) -3.78,-1.02 ; -1.49,-1.27 ccw(c-1.49,-1.02) -1.24,-1.02 ; -1.49,-1.27 -3.53,-1.27 cw(c-3.53,-1.02) -3.78,-1.02 ; 1.05,-1.27 ccw(c1.05,-1.02) 1.3,-1.02 ; 1.05,-1.27 -0.99,-1.27 cw(c-0.99,-1.02) -1.24,-1.02 ; 3.59,-1.27 ccw(c3.59,-1.02) 3.84,-1.02 ; 3.59,-1.27 1.55,-1.27 cw(c1.55,-1.02) 1.3,-1.02 ; 6.13,-1.27 ccw(c6.13,-1.02) 6.38,-1.02 6.38,1.02 ccw(c6.13,1.02) 6.13,1.27 4.09,1.27 ccw(c4.09,1.02) 3.84,1.02 ; 6.13,-1.27 4.09,-1.27 cw(c4.09,-1.02) 3.84,-1.02 ; -3.78,-1.02 -3.78,1.02 ; -3.78,1.02 cw(c-3.53,1.02) -3.53,1.27 -1.49,1.27 cw(c-1.49,1.02) -1.24,1.02 ; -1.24,-1.02 -1.24,1.02 ; -1.24,1.02 cw(c-0.99,1.02) -0.99,1.27 1.05,1.27 cw(c1.05,1.02) 1.3,1.02 ; 1.3,-1.02 1.3,1.02 ; 1.3,1.02 cw(c1.55,1.02) 1.55,1.27 3.59,1.27 cw(c3.59,1.02) 3.84,1.02 ; 3.84,-1.02 3.84,1.02
Mechanical 1:
  lines w0.01: -3.81,-1.27 -1.27,-1.27 ; -3.81,-1.27 -3.81,1.27 ; -3.81,-1.27 -3.81,1.27 ; -3.81,-1.27 -6.35,-1.27 -6.35,1.27 -3.81,1.27 ; -3.81,1.27 -1.27,1.27 ; -1.27,-1.27 1.27,-1.27 ; -1.27,-1.27 -1.27,1.27 ; -1.27,-1.27 -1.27,1.27 ; -1.27,1.27 1.27,1.27 ; 1.27,-1.27 3.81,-1.27 ; 1.27,-1.27 1.27,1.27 ; 1.27,-1.27 1.27,1.27 ; 1.27,1.27 3.81,1.27 ; 3.81,-1.27 6.35,-1.27 6.35,1.27 3.81,1.27 ; 3.81,-1.27 3.81,1.27 ; 3.81,-1.27 3.81,1.27 ; -5.588,-0.508 -5.588,0.508 -4.572,0.508 -4.572,-0.508 -5.588,-0.508 ; -3.048,-0.508 -3.048,0.508 -2.032,0.508 -2.032,-0.508 -3.048,-0.508 ; -0.508,-0.508 0.508,-0.508 0.508,0.508 -0.508,0.508 -0.508,-0.508 ; 2.032,-0.508 2.032,0.508 3.048,0.508 3.048,-0.508 2.032,-0.508 ; 4.572,-0.508 4.572,0.508 5.588,0.508 5.588,-0.508 4.572,-0.508
  text "1" at -7.239,-1.016 h2

## PLS-10 [mm]
pads (10):
  round 1.6 hole 1: 1(-11.43,0) 2(-8.89,0) 3(-6.35,0) 4(-3.81,0) 5(-1.27,0) 6(1.27,0) 7(3.81,0) 8(6.35,0) 9(8.89,0) 10(11.43,0)
Top Overlay:
  lines w0.25: -10.38,-1.27 ccw(c-10.38,-1.02) -10.13,-1.02 ; -10.38,-1.27 -12.42,-1.27 cw(c-12.42,-1.02) -12.67,-1.02 -12.67,1.02 cw(c-12.42,1.02) -12.42,1.27 -10.38,1.27 cw(c-10.38,1.02) -10.13,1.02 ; -7.84,-1.27 ccw(c-7.84,-1.02) -7.59,-1.02 ; -7.84,-1.27 -9.88,-1.27 cw(c-9.88,-1.02) -10.13,-1.02 ; -5.3,-1.27 ccw(c-5.3,-1.02) -5.05,-1.02 ; -5.3,-1.27 -7.34,-1.27 cw(c-7.34,-1.02) -7.59,-1.02 ; -2.76,-1.27 ccw(c-2.76,-1.02) -2.51,-1.02 ; -2.76,-1.27 -4.8,-1.27 cw(c-4.8,-1.02) -5.05,-1.02 ; -0.22,-1.27 ccw(c-0.22,-1.02) 0.03,-1.02 ; -0.22,-1.27 -2.26,-1.27 cw(c-2.26,-1.02) -2.51,-1.02 ; 2.32,-1.27 ccw(c2.32,-1.02) 2.57,-1.02 ; 2.32,-1.27 0.28,-1.27 cw(c0.28,-1.02) 0.03,-1.02 ; 4.86,-1.27 ccw(c4.86,-1.02) 5.11,-1.02 ; 4.86,-1.27 2.82,-1.27 cw(c2.82,-1.02) 2.57,-1.02 ; 7.4,-1.27 ccw(c7.4,-1.02) 7.65,-1.02 ; 7.4,-1.27 5.36,-1.27 cw(c5.36,-1.02) 5.11,-1.02 ; 9.94,-1.27 ccw(c9.94,-1.02) 10.19,-1.02 ; 9.94,-1.27 7.9,-1.27 cw(c7.9,-1.02) 7.65,-1.02 ; 12.48,-1.27 ccw(c12.48,-1.02) 12.73,-1.02 12.73,1.02 ccw(c12.48,1.02) 12.48,1.27 10.44,1.27 ccw(c10.44,1.02) 10.19,1.02 ; 12.48,-1.27 10.44,-1.27 cw(c10.44,-1.02) 10.19,-1.02 ; -10.13,-1.02 -10.13,1.02 ; -10.13,1.02 cw(c-9.88,1.02) -9.88,1.27 -7.84,1.27 cw(c-7.84,1.02) -7.59,1.02 ; -7.59,-1.02 -7.59,1.02 ; -7.59,1.02 cw(c-7.34,1.02) -7.34,1.27 -5.3,1.27 cw(c-5.3,1.02) -5.05,1.02 ; -5.05,-1.02 -5.05,1.02 ; -5.05,1.02 cw(c-4.8,1.02) -4.8,1.27 -2.76,1.27 cw(c-2.76,1.02) -2.51,1.02 ; -2.51,-1.02 -2.51,1.02 ; -2.51,1.02 cw(c-2.26,1.02) -2.26,1.27 -0.22,1.27 cw(c-0.22,1.02) 0.03,1.02 ; 0.03,-1.02 0.03,1.02 ; 0.03,1.02 cw(c0.28,1.02) 0.28,1.27 2.32,1.27 cw(c2.32,1.02) 2.57,1.02 ; 2.57,-1.02 2.57,1.02 ; 2.57,1.02 cw(c2.82,1.02) 2.82,1.27 4.86,1.27 cw(c4.86,1.02) 5.11,1.02 ; 5.11,-1.02 5.11,1.02 ; 5.11,1.02 cw(c5.36,1.02) 5.36,1.27 7.4,1.27 cw(c7.4,1.02) 7.65,1.02 ; 7.65,-1.02 7.65,1.02 ; 7.65,1.02 cw(c7.9,1.02) 7.9,1.27 9.94,1.27 cw(c9.94,1.02) 10.19,1.02 ; 10.19,-1.02 10.19,1.02
Mechanical 1:
  lines w0.01: -10.16,-1.27 -7.62,-1.27 ; -10.16,-1.27 -10.16,1.27 ; -10.16,-1.27 -10.16,1.27 ; -10.16,-1.27 -12.7,-1.27 -12.7,1.27 -10.16,1.27 ; -10.16,1.27 -7.62,1.27 ; -7.62,-1.27 -5.08,-1.27 ; -7.62,-1.27 -7.62,1.27 ; -7.62,-1.27 -7.62,1.27 ; -7.62,1.27 -5.08,1.27 ; -5.08,-1.27 -2.54,-1.27 ; -5.08,-1.27 -5.08,1.27 ; -5.08,-1.27 -5.08,1.27 ; -5.08,1.27 -2.54,1.27 ; -2.54,-1.27 0,-1.27 ; -2.54,-1.27 -2.54,1.27 ; -2.54,-1.27 -2.54,1.27 ; -2.54,1.27 0,1.27 ; 0,-1.27 2.54,-1.27 ; 0,-1.27 0,1.27 ; 0,-1.27 0,1.27 ; 0,1.27 2.54,1.27 ; 2.54,-1.27 5.08,-1.27 ; 2.54,-1.27 2.54,1.27 ; 2.54,-1.27 2.54,1.27 ; 2.54,1.27 5.08,1.27 ; 5.08,-1.27 7.62,-1.27 ; 5.08,-1.27 5.08,1.27 ; 5.08,-1.27 5.08,1.27 ; 5.08,1.27 7.62,1.27 ; 7.62,-1.27 10.16,-1.27 ; 7.62,-1.27 7.62,1.27 ; 7.62,-1.27 7.62,1.27 ; 7.62,1.27 10.16,1.27 ; 10.16,-1.27 12.7,-1.27 12.7,1.27 10.16,1.27 ; 10.16,-1.27 10.16,1.27 ; 10.16,-1.27 10.16,1.27 ; -11.938,-0.508 -11.938,0.508 -10.922,0.508 -10.922,-0.508 -11.938,-0.508 ; -9.398,-0.508 -9.398,0.508 -8.382,0.508 -8.382,-0.508 -9.398,-0.508 ; -6.858,-0.508 -5.842,-0.508 -5.842,0.508 -6.858,0.508 -6.858,-0.508 ; -4.318,-0.508 -4.318,0.508 -3.302,0.508 -3.302,-0.508 -4.318,-0.508 ; -1.778,-0.508 -1.778,0.508 -0.762,0.508 -0.762,-0.508 -1.778,-0.508 ; 0.762,-0.508 1.778,-0.508 1.778,0.508 0.762,0.508 0.762,-0.508 ; 3.302,-0.508 3.302,0.508 4.318,0.508 4.318,-0.508 3.302,-0.508 ; 5.842,-0.508 6.858,-0.508 6.858,0.508 5.842,0.508 5.842,-0.508 ; 8.382,-0.508 9.398,-0.508 9.398,0.508 8.382,0.508 8.382,-0.508 ; 10.922,-0.508 10.922,0.508 11.938,0.508 11.938,-0.508 10.922,-0.508

## PLS_6 [mm]
pads (6):
  rect 1.6x1.6 hole 1: 1(0,0)
  round 1.6 hole 1: 2(2.54,0) 3(5.08,0) 4(7.62,0) 5(10.16,0) 6(12.7,0)
Top Overlay:
  lines w0.25: 1.05,-1.27 ccw(c1.05,-1.02) 1.3,-1.02 ; 1.05,-1.27 -0.99,-1.27 cw(c-0.99,-1.02) -1.24,-1.02 -1.24,1.02 cw(c-0.99,1.02) -0.99,1.27 1.05,1.27 cw(c1.05,1.02) 1.3,1.02 ; 3.59,-1.27 ccw(c3.59,-1.02) 3.84,-1.02 ; 3.59,-1.27 1.55,-1.27 cw(c1.55,-1.02) 1.3,-1.02 ; 6.13,-1.27 ccw(c6.13,-1.02) 6.38,-1.02 ; 6.13,-1.27 4.09,-1.27 cw(c4.09,-1.02) 3.84,-1.02 ; 8.67,-1.27 ccw(c8.67,-1.02) 8.92,-1.02 ; 8.67,-1.27 6.63,-1.27 cw(c6.63,-1.02) 6.38,-1.02 ; 11.21,-1.27 ccw(c11.21,-1.02) 11.46,-1.02 ; 11.21,-1.27 9.17,-1.27 cw(c9.17,-1.02) 8.92,-1.02 ; 13.75,-1.27 ccw(c13.75,-1.02) 14,-1.02 14,1.02 ccw(c13.75,1.02) 13.75,1.27 11.71,1.27 ccw(c11.71,1.02) 11.46,1.02 ; 13.75,-1.27 11.71,-1.27 cw(c11.71,-1.02) 11.46,-1.02 ; 1.3,-1.02 1.3,1.02 ; 1.3,1.02 cw(c1.55,1.02) 1.55,1.27 3.59,1.27 cw(c3.59,1.02) 3.84,1.02 ; 3.84,-1.02 3.84,1.02 ; 3.84,1.02 cw(c4.09,1.02) 4.09,1.27 6.13,1.27 cw(c6.13,1.02) 6.38,1.02 ; 6.38,-1.02 6.38,1.02 ; 6.38,1.02 cw(c6.63,1.02) 6.63,1.27 8.67,1.27 cw(c8.67,1.02) 8.92,1.02 ; 8.92,-1.02 8.92,1.02 ; 8.92,1.02 cw(c9.17,1.02) 9.17,1.27 11.21,1.27 cw(c11.21,1.02) 11.46,1.02 ; 11.46,-1.02 11.46,1.02 ; 11.46,-1.02 11.46,1.02
Mechanical 1:
  lines w0.01: -1.21,-1.32 11.44,-1.32 ; -1.21,-1.31 -1.21,1.24 ; -1.21,1.25 11.44,1.25 ; 1.28,-1.32 1.28,1.23 ; 3.85,-1.3 3.85,1.25 ; 6.43,-1.3 6.43,1.25 ; 8.92,-1.29 8.92,1.25 ; 11.44,-1.31 11.44,1.23 ; 11.49,-1.31 11.49,1.24 ; 13.98,-1.31 13.98,1.23